# Altium footprint library Controller.PcbLib: 41 footprints (part 2 of 3)
Each footprint in its own frame and in the unit in brackets; x right, y up, seen from the top. Pads: shape width x height; smd on the part's side, far side on the other; paste and mask are expansions set on the pad; w line width, h text height; cw(c..) or ccw(c..) is an arc to the next point about the centre after c.
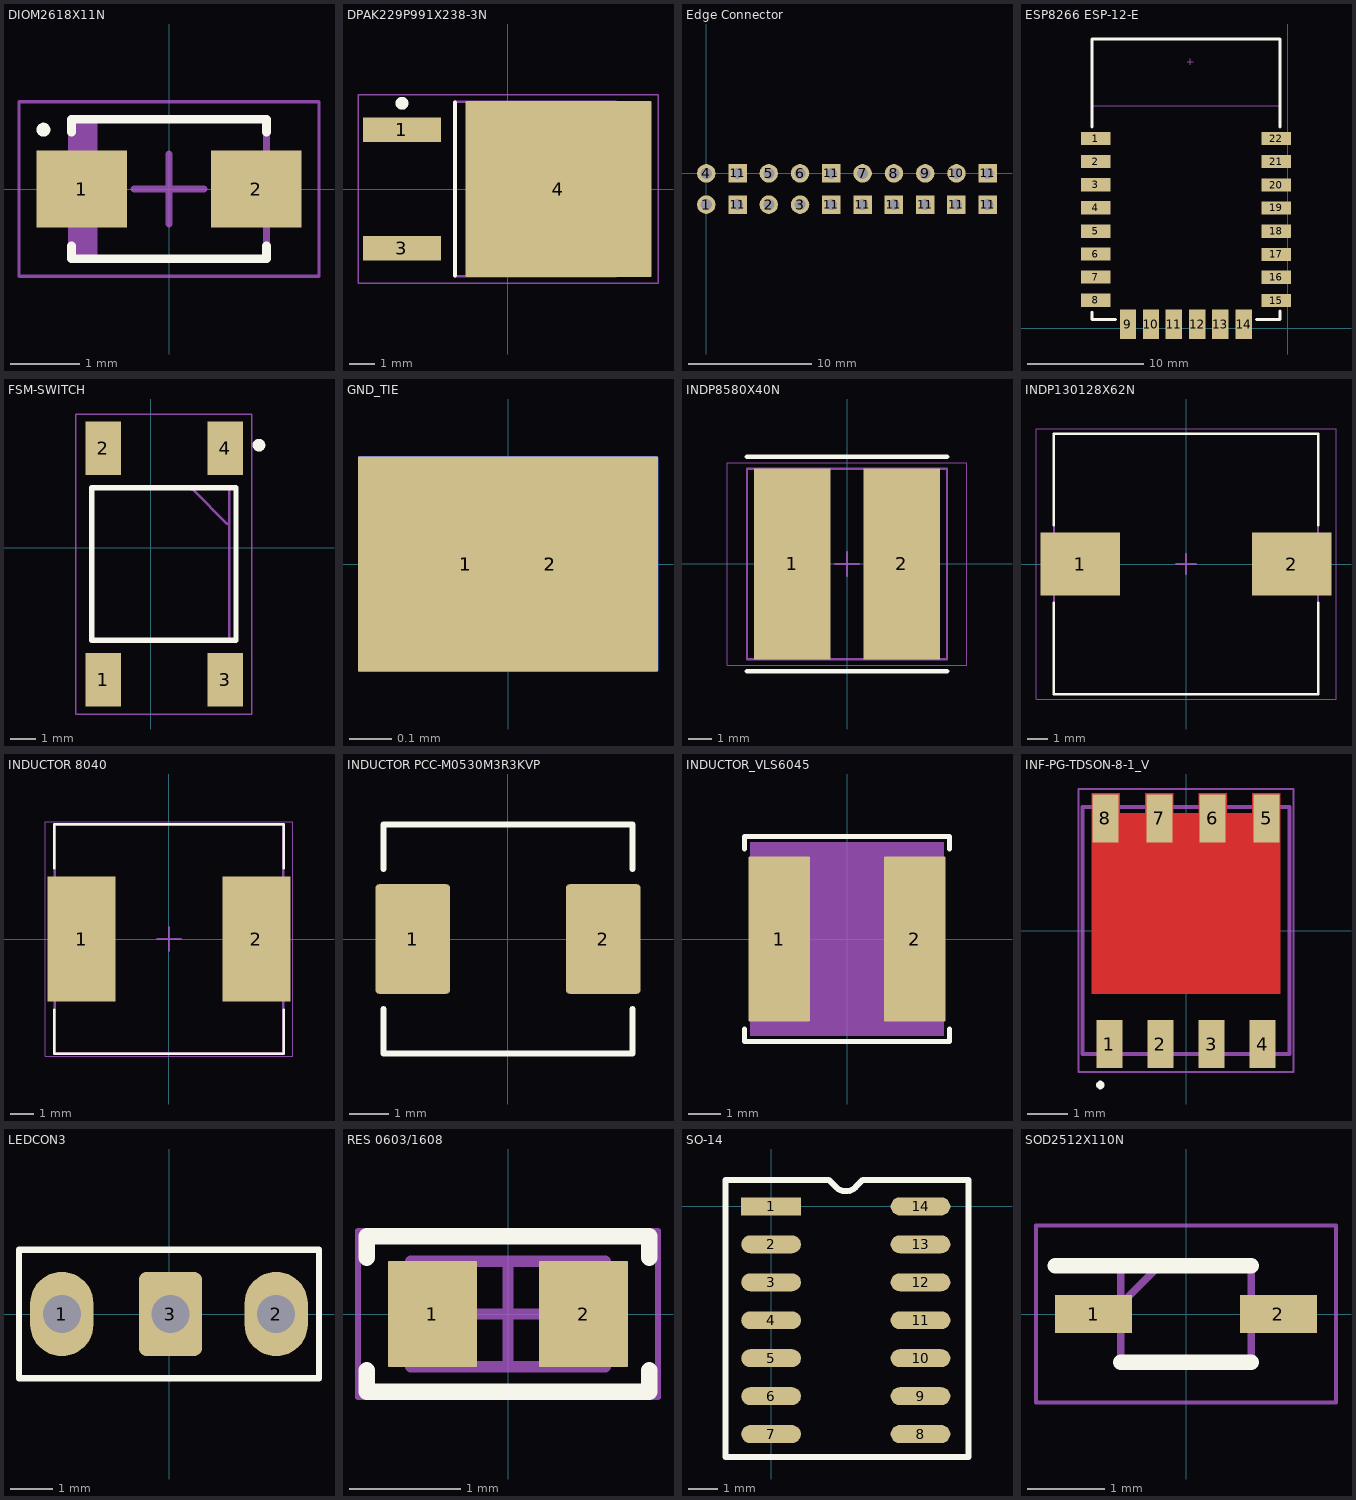
[diagram p1: the footprints below, top view; thin cyan lines are the x and y axes]

## DIOM2618X11N [mm] "Molded Diode, 2-Leads, Body 2.60x1.80mm, IPC Medium Density"
height 1.1
pads (2):
  rect 1.3x1.1 smd: 1(-1.25,0) 2(1.25,0)
Top Overlay:
  circle w0.1: c-1.8,0.85 r0.05
  lines w0.127: -1.4,-0.814 -1.4,-1 1.4,-1 1.4,-0.814 ; -1.4,0.813 -1.4,1 1.4,1 1.4,0.813
Mechanical 13:
  rectangle: -1.4,-1 -1.023,1
  lines w0.1: -1.4,-1 -1.4,1 1.4,1 1.4,-1 -1.4,-1
Mechanical 15:
  lines w0.05: -2.15,-1.25 -2.15,1.25 2.15,1.25 2.15,-1.25 -2.15,-1.25
  lines w0.1: -0.5,0 0.5,0 ; 0,-0.5 0,0.5
3D body "DIOM2618X11N.step": height 1.1, standoff 0, extent -1.62,-1 1.62,1

## DPAK229P991X238-3N [mm] "D-PAK, 3-Pads, Body 6.21x6.73mm (max), IPC Medium Density"
height 2.38
pads (3):
  rrect1% 3x0.95 smd: 1(-4.1,2.29) 3(-4.1,-2.29)
  rrect1% 7.2x6.8 smd: 4(1.95,0)
Top Overlay:
  circle w0.25: c-4.1,3.315 r0.125
  lines w0.152: -2.05,-3.35 -2.05,3.35
Mechanical 13:
  lines w0.1: -2.05,-3.375 -2.05,3.375 4.17,3.375 4.17,-3.375 -2.05,-3.375
Mechanical 15:
  lines w0.05: -5.8,-3.65 -5.8,3.65 5.8,3.65 5.8,-3.65 -5.8,-3.65
  lines w0.1: -0.5,0 0.5,0 ; 0,-0.5 0,0.5
3D body "DPAK229P991X238-3N.step": height 2.38, standoff 0, extent -4.385,-3.375 5.52,3.375

## Edge Connector [mm]
pads (20):
  rrect100% 1.5x1.5 hole 0.9: 1(0,-2.54) 2(5.08,-2.54) 3(7.62,-2.54) 4(0,0) 5(5.08,0) 6(7.62,0) 7(12.7,0) 8(15.24,0) 9(17.78,0) 10(20.32,0)
  rrect1% 1.5x1.5 hole 0.9: 11(2.54,-2.54) 11(2.54,0) 11(10.16,-2.54) 11(10.16,0) 11(12.7,-2.54) 11(15.24,-2.54) 11(17.78,-2.54) 11(20.32,-2.54) 11(22.86,-2.54) 11(22.86,0)

## ESP8266 ESP-12-E [mil] "ESP8266 ESP-12-E"
pads (22):
  rrect1% 100x45 smd: 1(-653,646) 2(-653,568) 3(-653,489) 4(-653,411) 5(-653,331) 6(-653,253) 7(-653,175) 8(-653,96) 15(-38,95) 16(-38,174) 17(-38,252) 18(-39,331) 19(-39,410) 20(-39,488) 21(-39,568) 22(-39,646)
  rrect1% 55x100 smd: 9(-543,14) 10(-465,14) 11(-387,14) 12(-307,14) 13(-229,14) 14(-149,14)
Top Overlay:
  lines w10: -665,55 -665,30 -585,30 ; -665,685 -665,985 -25,985 -25,685 ; -105,30 -25,30 -25,60
Mechanical 13:
  lines w2: -662.96,757.97 -22.96,757.97
Mechanical 15:
  lines w3.94: -341,907.92 -321,907.92 ; -331,897.92 -331,917.92
3D body "ESP8266 single.stp": height 118.11, standoff -0.39, extent -660,34.93 -30.08,979.88

## FSM-SWITCH [mm]
pads (4):
  rect 1.4x2.1 smd: 1(-1.869,-5.185) 2(-1.869,3.915) 3(2.931,-5.185) 4(2.931,3.915)
Top Overlay:
  circle w0.25: c4.256,4.04 r0.125
  lines w0.2: 3.35,-3.635 -2.319,-3.635 -2.319,2.365 3.35,2.365
  lines w0.203: 3.35,-3.635 3.35,2.365
Mechanical 15:
  lines w0.1: 1.656,2.29 3.006,0.94 ; -2.319,-3.635 -2.319,2.365 3.081,2.365 3.081,-3.635 -2.319,-3.635
Mechanical 20:
  lines w0.05: -2.944,-6.535 -2.944,5.265 3.981,5.265 3.981,-6.535 -2.944,-6.535
3D body "switch.stp.step": height 5.07, standoff -0.01, extent -2.492,-5.635 3.508,4.365

## GND_TIE [mil]
pads (4):
  rrect1% 20x20 smd paste-787.4 mask+0: 1(-3.94,0)
  rrect1% 20x20 smd far side paste-787.4 mask+0: 1(-3.94,0)
  rrect1% 20x20 smd paste-787.4: 2(3.94,0)
  rrect1% 20x20 smd far side paste-787.4: 2(3.94,0)

## INDP8580X40N [mm] "Precision Wire Wound Inductor, 2-Leads, Body 8.55x8.00mm, IPC Medium Density"
height 4
pads (2):
  rrect1% 3.3x8.2 smd: 1(-2.35,0) 2(2.35,0)
Top Overlay:
  lines w0.2: -4.3,-4.608 4.3,-4.608 ; -4.3,4.608 4.3,4.608
Mechanical 13:
  lines w0.1: -4.3,-4.1 4.3,-4.1 4.3,4.1 -4.3,4.1 -4.3,-4.1
Mechanical 15:
  lines w0.05: -5.15,-4.35 5.15,-4.35 5.15,4.35 -5.15,4.35 -5.15,-4.35
  lines w0.1: -0.5,0 0.5,0 ; 0,-0.5 0,0.5
3D body "INDP8580X40N.step": height 4.1, standoff 0, extent -4.375,-4 4.375,4

## INDP130128X62N [mm] "Precision Wire Wound Inductor, 2-Leads, Body 13.00x12.80mm, IPC Medium Density"
height 6.2
pads (2):
  rect 3.9x3.1 smd: 1(-5.2,0) 2(5.2,0)
Top Overlay:
  lines w0.127: -6.5,-1.914 -6.5,-6.4 6.5,-6.4 6.5,-1.914 ; -6.5,1.913 -6.5,6.4 6.5,6.4 6.5,1.913
Mechanical 13:
  lines w0.1: -6.5,-6.4 6.5,-6.4 6.5,6.4 -6.5,6.4 -6.5,-6.4
Mechanical 15:
  lines w0.05: -7.375,-6.65 7.375,-6.65 7.375,6.65 -7.375,6.65 -7.375,-6.65
  lines w0.1: -0.5,0 0.5,0 ; 0,-0.5 0,0.5
3D body "INDP130128X62N.step": height 6.3, standoff 0, extent -6.6,-6.4 6.6,6.4

## INDUCTOR 8040 [mm] "Precision Wire Wound Inductor, 2-Leads, Body 9.70x9.70mm, IPC High Density"
height 4
pads (2):
  rect 2.9x5.35 smd: 1(-3.725,0) 2(3.725,0)
Top Overlay:
  lines w0.102: -4.9,-3.026 -4.9,-4.9 4.9,-4.9 4.9,-3.026 ; -4.9,3.026 -4.9,4.9 4.9,4.9 4.9,3.026
Mechanical 13:
  lines w0.1: -4.875,-4.875 4.875,-4.875 4.875,4.875 -4.875,4.875 -4.875,-4.875
Mechanical 15:
  lines w0.05: -5.275,-5 5.275,-5 5.275,5 -5.275,5 -5.275,-5
  lines w0.1: -0.5,0 0.5,0 ; 0,-0.5 0,0.5
3D body "INDUCTOR 8040.step": height 4.1, standoff 0, extent -4.95,-4.85 4.95,4.85

## INDUCTOR PCC-M0530M3R3KVP [mm]
pads (2):
  rrect10% 1.905x2.79 smd: 1(-2.425,0) 2(2.425,0)
Top Overlay:
  lines w0.152: -3.175,-1.778 -3.175,-2.921 3.175,-2.921 3.175,-1.778 ; -3.175,1.778 -3.175,2.921 3.175,2.921 3.175,1.778
3D body: height 0, standoff 0, extent -2.794,-2.54 2.794,2.54

## INDUCTOR_VLS6045 [mm]
height 4.5
pads (2):
  rrect1% 1.9x5.1 smd: 1(-2.1,0) 2(2.1,0)
Top Overlay:
  lines w0.152: -3.175,-2.794 -3.175,-3.175 3.175,-3.175 3.175,-2.794 ; -3.175,2.794 -3.175,3.175 3.175,3.175 3.175,2.794
Mechanical 15:
  rectangle: -3,-3 3,3
3D body: height 4.5, standoff 0, extent -3,-3 3,3

## INF-PG-TDSON-8-1_V [mm] "TDSON, 8-Leads, Body 6.15x5.15mm, Pitch 1.27mm"
height 1
pads (8):
  rect 0.65x1.2 smd: 1(-1.905,-2.825) 2(-0.635,-2.825) 3(0.635,-2.825) 4(1.905,-2.825) 5(2.007,2.794) 6(0.66,2.794) 7(-0.66,2.794) 8(-2.007,2.794)
Top Layer:
  region: 0.315,2.925 1.015,2.925 1.015,3.425 0.315,3.425
  region: -1.015,2.925 -0.315,2.925 -0.315,3.425 -1.015,3.425
  region: 1.65,2.925 2.35,2.925 2.35,3.425 1.65,3.425
  region: -2.35,2.925 -1.65,2.925 -1.65,3.425 -2.35,3.425
  region: -2.35,2.925 -2.35,-1.575 2.35,-1.575 2.35,2.925
Top Overlay:
  region: -2.234,-3.842 -2.234,-3.862 -2.218,-3.899 -2.19,-3.927 -2.153,-3.942 -2.134,-3.942 -2.114,-3.942 -2.077,-3.927 -2.049,-3.899 -2.034,-3.862 -2.034,-3.842 -2.034,-3.822 -2.049,-3.785 -2.077,-3.757 -2.114,-3.742 -2.134,-3.742 -2.153,-3.742 -2.19,-3.757 -2.218,-3.785 -2.234,-3.822
Top Paste:
  region: -2.286,2.286 -2.286,-1.016 2.286,-1.016 2.286,2.286
Mechanical 13:
  lines w0.1: -2.575,-3.075 2.575,-3.075 2.575,3.075 -2.575,3.075 -2.575,-3.075
Mechanical 15:
  lines w0.05: -2.675,-3.525 2.675,-3.525 2.675,3.525 -2.675,3.525 -2.675,-3.525
  lines w0.1: -0.5,0 0.5,0 ; 0,-0.5 0,0.5
3D body: height 1, standoff 0, extent -2.575,-3.075 2.575,3.075

## LEDCON3 [mm]
pads (3):
  oval 1.5x2 hole 0.9 paste-2.54: 1(-2.54,0) 2(2.54,0)
  rrect25% 1.5x2 hole 0.9 paste-2.54: 3(0.033,0)
Top Overlay:
  lines w0.152: -3.556,-1.524 -3.556,1.524 3.556,1.524 3.556,-1.524 -3.556,-1.524
Bottom Overlay:
  lines w0.152: -3.556,-1.524 -3.556,1.524 3.556,1.524 3.556,-1.524 -3.556,-1.524
  text "GND" at 1.016,1.812 h0.76
  text "DAT" at 3.556,1.778 h0.76
  text "VCC" at -1.524,1.778 h0.76

## RES 0603/1608 [mm] "Chip Resistor, 0603"
height 0.45
pads (2):
  rrect1% 0.8x0.95 smd: 1(-0.68,0) 2(0.68,0)
Top Overlay:
  lines w0.15: -1.27,-0.508 -1.27,-0.7 1.27,-0.7 1.27,-0.508 ; -1.27,0.508 -1.27,0.7 1.27,0.7 1.27,0.508
Mechanical 13:
  lines w0.1: -0.875,-0.475 -0.875,0.475 0.875,0.475 0.875,-0.475 -0.875,-0.475
Mechanical 15:
  lines w0.05: -1.35,-0.75 -1.35,0.75 1.35,0.75 1.35,-0.75 -1.35,-0.75
  lines w0.1: -0.475,0 0.475,0 ; 0,-0.475 0,0.475
3D body "0603 resistor.STEP": height 0.45, standoff 0, extent -0.8,-0.4 0.8,0.4

## SO-14 [mm]
pads (14):
  rect 2x0.6 smd: 1(0,0)
  oval 2x0.6 smd: 2(0,-1.27) 3(0,-2.54) 4(0,-3.81) 5(0,-5.08) 6(0,-6.35) 7(0,-7.62) 8(5,-7.62) 9(5,-6.35) 10(5,-5.08) 11(5,-3.81) 12(5,-2.54) 13(5,-1.27) 14(5,0)
Top Overlay:
  lines w0.2: -1.524,-8.382 -1.524,0.889 1.929,0.889 2.183,0.635 ccw(c2.5,0.962) 2.817,0.635 3.072,0.889 6.604,0.889 6.604,-8.382 -1.524,-8.382

## SOD2512X110N [mm]
pads (2):
  rect 1x0.5 smd: 1(-1.2,0) 2(1.2,0)
Top Overlay:
  lines w0.2: -1.7,0.625 0.85,0.625 ; -0.85,-0.625 0.85,-0.625
Mechanical 15:
  lines w0.1: -0.85,0.125 -0.35,0.625 ; -0.85,-0.625 0.85,-0.625 0.85,0.625 -0.85,0.625 -0.85,-0.625
Mechanical 20:
  lines w0.05: -1.95,-1.15 1.95,-1.15 1.95,1.15 -1.95,1.15 -1.95,-1.15
3D body "D2.step": height 1.1, standoff 0, extent -1.12,-0.699 1.12,0.701